# Altium footprint library Opam.PcbLib: 1 footprints
Each footprint in its own frame and in the unit in brackets; x right, y up, seen from the top. Pads: shape width x height; smd on the part's side, far side on the other; paste and mask are expansions set on the pad; w line width, h text height; cw(c..) or ccw(c..) is an arc to the next point about the centre after c.
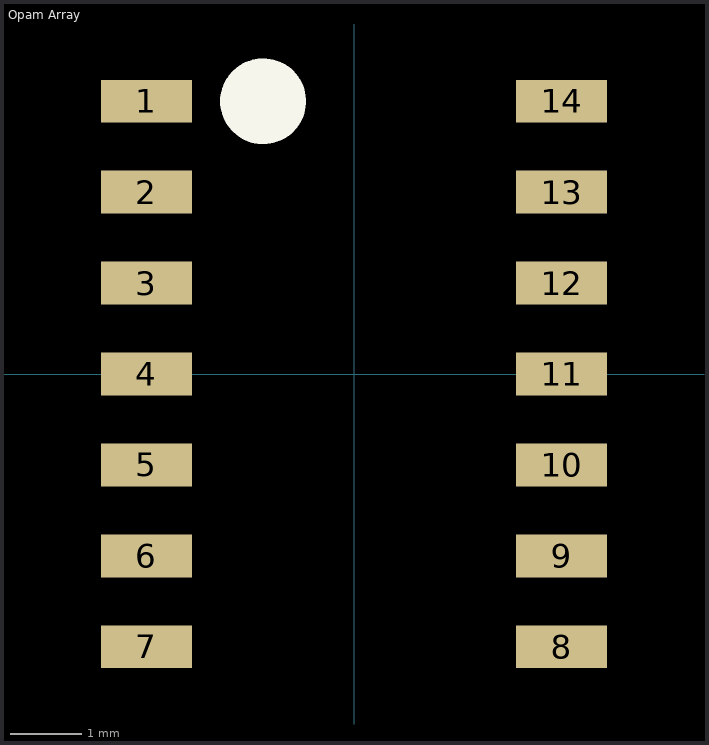
[diagram p0: the footprint, top view; thin cyan lines are the x and y axes]

## Opam Array [mm] "Four Opam"
pads (14):
  rect 1.27x0.6 smd: 1(-2.9,3.81) 2(-2.9,2.54) 3(-2.9,1.27) 4(-2.9,0) 5(-2.9,-1.27) 6(-2.9,-2.54) 7(-2.9,-3.81) 8(2.9,-3.81) 9(2.9,-2.54) 10(2.9,-1.27) 11(2.9,0) 12(2.9,1.27) 13(2.9,2.54) 14(2.9,3.81)
Top Overlay:
  circle w0.6: c-1.27,3.81 r0.3
3D body: height 1.75, standoff 0, extent -2.9,-4.275 2.9,4.275